# EAGLE library part CH7033B (library QFN88)
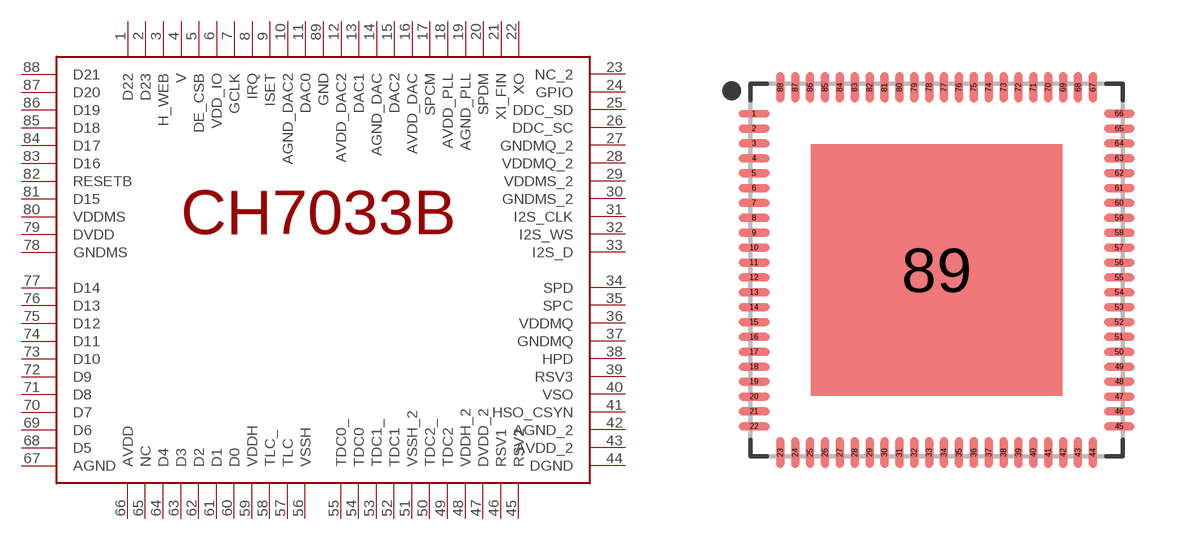
[diagram p0: symbol with the pads of CH7033B; footprint CH7033B]

Designator prefix -

## CH7033B  [CH7033B]
1  D22  in
2  D23  in
3  H_WEB
4  V
5  DE_CSB
6  VDD_IO  pwr
7  GCLK
8  IRQ
9  ISET
10  AGND_DAC2
11  DAC0
12  AVDD_DAC2
13  DAC1
14  AGND_DAC
15  DAC2
16  AVDD_DAC
17  SPCM
18  AVDD_PLL
19  AGND_PLL
20  SPDM
21  XI_FIN
22  XO
23  NC_2  nc
24  GPIO
25  DDC_SD
26  DDC_SC
27  GNDMQ_2  pwr
28  VDDMQ_2  pwr
29  VDDMS_2  pwr
30  GNDMS_2  pwr
31  I2S_CLK
32  I2S_WS
33  I2S_D
34  SPD
35  SPC
36  VDDMQ  pwr
37  GNDMQ  pwr
38  HPD
39  RSV3
40  VSO
41  HSO_CSYN
42  AGND_2  pwr
43  AVDD_2  pwr
44  DGND  pwr
45  RSV2  in
46  RSV1  in
47  DVDD_2  pwr
48  VDDH_2  pwr
49  TDC2  out
50  TDC2_  out
51  VSSH_2  pwr
52  TDC1  out
53  TDC1_  out
54  TDC0  out
55  TDC0_  out
56  VSSH  pwr
57  TLC  out
58  TLC_  out
59  VDDH  pwr
60  D0  in
61  D1  in
62  D2  in
63  D3  in
64  D4  in
65  NC  nc
66  AVDD  pwr
67  AGND  pwr
68  D5  in
69  D6  in
70  D7  in
71  D8  in
72  D9  in
73  D10  in
74  D11  in
75  D12  in
76  D13  in
77  D14  in
78  GNDMS  pwr
79  DVDD  pwr
80  VDDMS  pwr
81  D15  in
82  RESETB  in
83  D16  in
84  D17  in
85  D18  in
86  D19  in
87  D20  in
88  D21  in
89  GND  pwr

## Footprint CH7033B (pad centres in mm)
88-QFN, 0.40 mm pitch, 9.95 X 9.95 X 0.90 mm body, 7.15 X 7.15 mm thermal pad 88-pin QFN package with 0.40 mm pitch with body size 9.95 X 9.95 X 0.90 mm and thermal pad size 7.15 X 7.15 mm
smd 0.835 x 0.2: 1 -4.907,4.2
smd 0.835 x 0.22: 2 -4.907,3.8; 3 -4.907,3.4; 4 -4.907,3; 5 -4.907,2.6; 6 -4.907,2.2; 7 -4.907,1.8; 8 -4.907,1.4; 9 -4.907,1; 10 -4.907,0.6; 11 -4.907,0.2; 12 -4.907,-0.2; 13 -4.907,-0.6; 14 -4.907,-1; 15 -4.907,-1.4; 16 -4.907,-1.8; 17 -4.907,-2.2; 18 -4.907,-2.6; 19 -4.907,-3; 20 -4.907,-3.4; 21 -4.907,-3.8; 22 -4.907,-4.2; 45 4.907,-4.2; 46 4.907,-3.8; 47 4.907,-3.4; 48 4.907,-3; 49 4.907,-2.6; 50 4.907,-2.2; 51 4.907,-1.8; 52 4.907,-1.4; 53 4.907,-1; 54 4.907,-0.6; 55 4.907,-0.2; 56 4.907,0.2; 57 4.907,0.6; 58 4.907,1; 59 4.907,1.4; 60 4.907,1.8; 61 4.907,2.2; 62 4.907,2.6; 63 4.907,3; 64 4.907,3.4; 65 4.907,3.8; 66 4.907,4.2
smd 0.22 x 0.835: 23 -4.2,-4.907; 24 -3.8,-4.907; 25 -3.4,-4.907; 26 -3,-4.907; 27 -2.6,-4.907; 28 -2.2,-4.907; 29 -1.8,-4.907; 30 -1.4,-4.907; 31 -1,-4.907; 32 -0.6,-4.907; 33 -0.2,-4.907; 34 0.2,-4.907; 35 0.6,-4.907; 36 1,-4.907; 37 1.4,-4.907; 38 1.8,-4.907; 39 2.2,-4.907; 40 2.6,-4.907; 41 3,-4.907; 42 3.4,-4.907; 43 3.8,-4.907; 44 4.2,-4.907; 67 4.2,4.907; 68 3.8,4.907; 69 3.4,4.907; 70 3,4.907; 71 2.6,4.907; 72 2.2,4.907; 73 1.8,4.907; 74 1.4,4.907; 75 1,4.907; 76 0.6,4.907; 77 0.2,4.907; 78 -0.2,4.907; 79 -0.6,4.907; 80 -1,4.907; 81 -1.4,4.907; 82 -1.8,4.907; 83 -2.2,4.907; 84 -2.6,4.907; 85 -3,4.907; 86 -3.4,4.907; 87 -3.8,4.907; 88 -4.2,4.907
smd 6.75 x 6.75: 89 0,0